# EAGLE library part SLA (library FansElectronics-Relay)
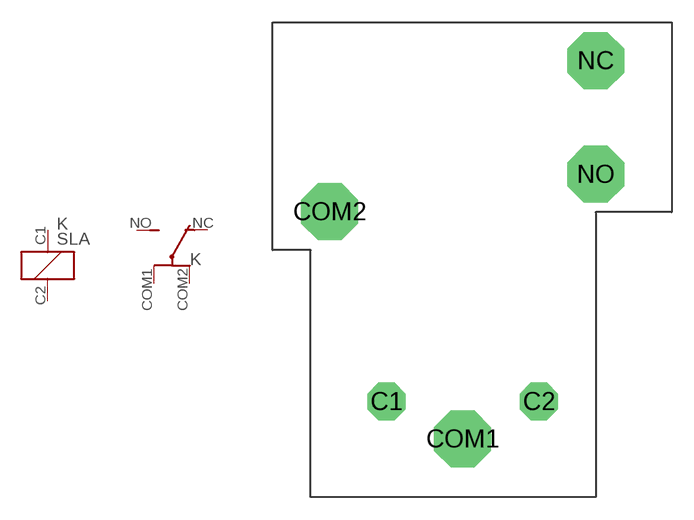
[diagram p0: symbol with the pads of SLA-O; footprint SLA-O]

Designator prefix K; gates G$1=K G$2=U-2

## SLA  [SLA-O]
C1  G$1:1  pas
C2  G$1:2  pas
COM1  G$2:COM1  pas
COM2  G$2:COM2  pas
NC  G$2:NC  pas
NO  G$2:NO  pas

## Footprint SLA-O (pad centres in mm)
drill 1.1 pad 2.54 octagon: C1 -5.1,-10.12; C2 5.1,-10.12
drill 2.1 pad 3.81 octagon: COM1 0,-12.62; COM2 -8.9,2.58; NC 8.9,12.68; NO 8.9,5.08